# EAGLE library part XC3S50PQ208 (library xilinx_spartan3_virtex4_and_5)
Xilinx FPGA
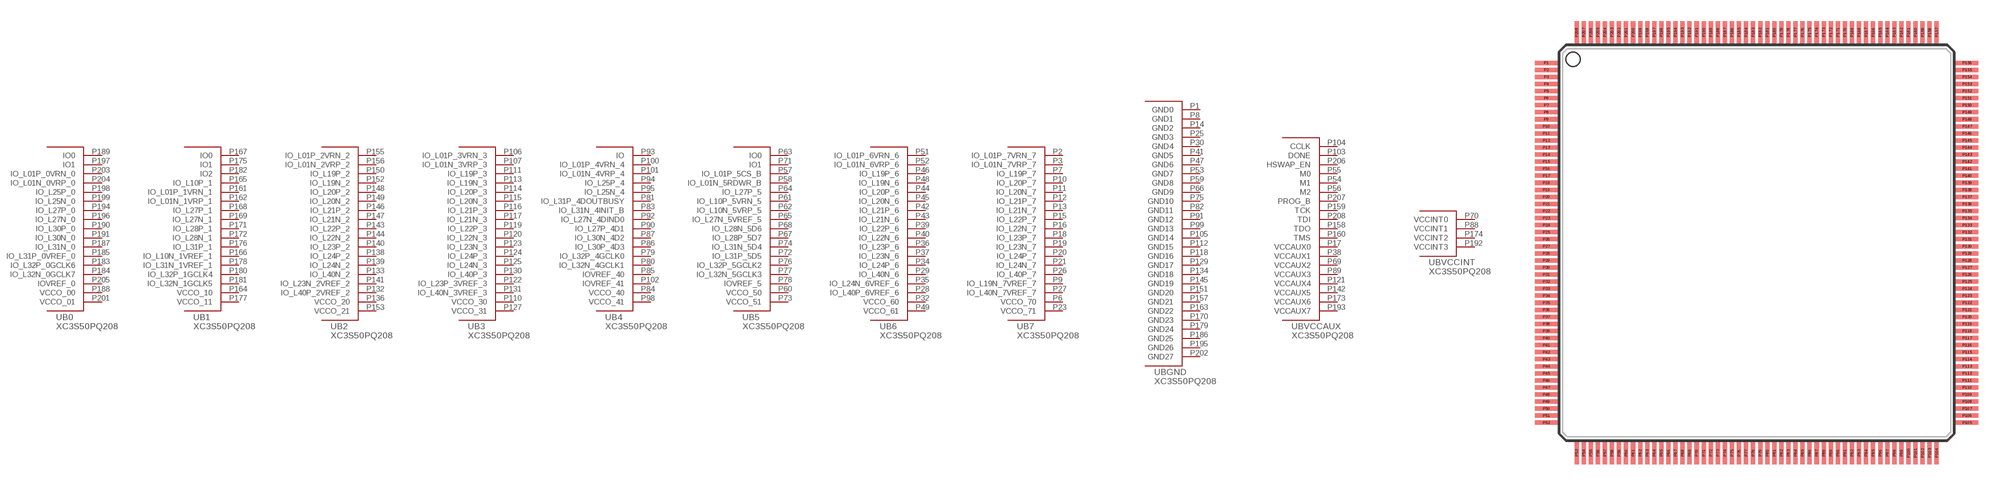
[diagram p6: symbol with the pads of PQ208; footprint PQ208]

Designator prefix U; gates B0=XC3S50PQ208_0 B1=XC3S50PQ208_1 B2=XC3S50PQ208_2 B3=XC3S50PQ208_3 B4=XC3S50PQ208_4 B5=XC3S50PQ208_5 B6=XC3S50PQ208_6 B7=XC3S50PQ208_7 BGND=XC3S50PQ208_GND BVCCAUX=XC3S50PQ208_VCCAUX BVCCINT=XC3S50PQ208_VCCINT

## XC3S50PQ208  [PQ208]
P1  BGND:GND0  pas
P2  B7:IO_L01P_7VRN_7
P3  B7:IO_L01N_7VRP_7
P6  B7:VCCO_70  pas
P7  B7:IO_L19P_7
P8  BGND:GND1  pas
P9  B7:IO_L19N_7VREF_7
P10  B7:IO_L20P_7
P11  B7:IO_L20N_7
P12  B7:IO_L21P_7
P13  B7:IO_L21N_7
P14  BGND:GND2  pas
P15  B7:IO_L22P_7
P16  B7:IO_L22N_7
P17  BVCCAUX:VCCAUX0  pas
P18  B7:IO_L23P_7
P19  B7:IO_L23N_7
P20  B7:IO_L24P_7
P21  B7:IO_L24N_7
P23  B7:VCCO_71  pas
P25  BGND:GND3  pas
P26  B7:IO_L40P_7
P27  B7:IO_L40N_7VREF_7
P28  B6:IO_L40P_6VREF_6
P29  B6:IO_L40N_6
P30  BGND:GND4  pas
P32  B6:VCCO_60  pas
P34  B6:IO_L24P_6
P35  B6:IO_L24N_6VREF_6
P36  B6:IO_L23P_6
P37  B6:IO_L23N_6
P38  BVCCAUX:VCCAUX1  pas
P39  B6:IO_L22P_6
P40  B6:IO_L22N_6
P41  BGND:GND5  pas
P42  B6:IO_L21P_6
P43  B6:IO_L21N_6
P44  B6:IO_L20P_6
P45  B6:IO_L20N_6
P46  B6:IO_L19P_6
P47  BGND:GND6  pas
P48  B6:IO_L19N_6
P49  B6:VCCO_61  pas
P51  B6:IO_L01P_6VRN_6
P52  B6:IO_L01N_6VRP_6
P53  BGND:GND7  pas
P54  BVCCAUX:M1
P55  BVCCAUX:M0
P56  BVCCAUX:M2
P57  B5:IO_L01P_5CS_B
P58  B5:IO_L01N_5RDWR_B
P59  BGND:GND8  pas
P60  B5:VCCO_50  pas
P61  B5:IO_L10P_5VRN_5
P62  B5:IO_L10N_5VRP_5
P63  B5:IO0
P64  B5:IO_L27P_5
P65  B5:IO_L27N_5VREF_5
P66  BGND:GND9  pas
P67  B5:IO_L28P_5D7
P68  B5:IO_L28N_5D6
P69  BVCCAUX:VCCAUX2  pas
P70  BVCCINT:VCCINT0  pas
P71  B5:IO1
P72  B5:IO_L31P_5D5
P73  B5:VCCO_51  pas
P74  B5:IO_L31N_5D4
P75  BGND:GND10  pas
P76  B5:IO_L32P_5GCLK2
P77  B5:IO_L32N_5GCLK3
P78  B5:IOVREF_5
P79  B4:IO_L32P_4GCLK0
P80  B4:IO_L32N_4GCLK1
P81  B4:IO_L31P_4DOUTBUSY
P82  BGND:GND11  pas
P83  B4:IO_L31N_4INIT_B
P84  B4:VCCO_40  pas
P85  B4:IOVREF_40
P86  B4:IO_L30P_4D3
P87  B4:IO_L30N_4D2
P88  BVCCINT:VCCINT1  pas
P89  BVCCAUX:VCCAUX3  pas
P90  B4:IO_L27P_4D1
P91  BGND:GND12  pas
P92  B4:IO_L27N_4DIND0
P93  B4:IO
P94  B4:IO_L25P_4
P95  B4:IO_L25N_4
P98  B4:VCCO_41  pas
P99  BGND:GND13  pas
P100  B4:IO_L01P_4VRN_4
P101  B4:IO_L01N_4VRP_4
P102  B4:IOVREF_41
P103  BVCCAUX:DONE
P104  BVCCAUX:CCLK
P105  BGND:GND14  pas
P106  B3:IO_L01P_3VRN_3
P107  B3:IO_L01N_3VRP_3
P110  B3:VCCO_30  pas
P111  B3:IO_L19P_3
P112  BGND:GND15  pas
P113  B3:IO_L19N_3
P114  B3:IO_L20P_3
P115  B3:IO_L20N_3
P116  B3:IO_L21P_3
P117  B3:IO_L21N_3
P118  BGND:GND16  pas
P119  B3:IO_L22P_3
P120  B3:IO_L22N_3
P121  BVCCAUX:VCCAUX4  pas
P122  B3:IO_L23P_3VREF_3
P123  B3:IO_L23N_3
P124  B3:IO_L24P_3
P125  B3:IO_L24N_3
P127  B3:VCCO_31  pas
P129  BGND:GND17  pas
P130  B3:IO_L40P_3
P131  B3:IO_L40N_3VREF_3
P132  B2:IO_L40P_2VREF_2
P133  B2:IO_L40N_2
P134  BGND:GND18  pas
P136  B2:VCCO_20  pas
P138  B2:IO_L24P_2
P139  B2:IO_L24N_2
P140  B2:IO_L23P_2
P141  B2:IO_L23N_2VREF_2
P142  BVCCAUX:VCCAUX5  pas
P143  B2:IO_L22P_2
P144  B2:IO_L22N_2
P145  BGND:GND19  pas
P146  B2:IO_L21P_2
P147  B2:IO_L21N_2
P148  B2:IO_L20P_2
P149  B2:IO_L20N_2
P150  B2:IO_L19P_2
P151  BGND:GND20  pas
P152  B2:IO_L19N_2
P153  B2:VCCO_21  pas
P155  B2:IO_L01P_2VRN_2
P156  B2:IO_L01N_2VRP_2
P157  BGND:GND21  pas
P158  BVCCAUX:TDO
P159  BVCCAUX:TCK
P160  BVCCAUX:TMS
P161  B1:IO_L01P_1VRN_1
P162  B1:IO_L01N_1VRP_1
P163  BGND:GND22  pas
P164  B1:VCCO_10  pas
P165  B1:IO_L10P_1
P166  B1:IO_L10N_1VREF_1
P167  B1:IO0
P168  B1:IO_L27P_1
P169  B1:IO_L27N_1
P170  BGND:GND23  pas
P171  B1:IO_L28P_1
P172  B1:IO_L28N_1
P173  BVCCAUX:VCCAUX6  pas
P174  BVCCINT:VCCINT2  pas
P175  B1:IO1
P176  B1:IO_L31P_1
P177  B1:VCCO_11  pas
P178  B1:IO_L31N_1VREF_1
P179  BGND:GND24  pas
P180  B1:IO_L32P_1GCLK4
P181  B1:IO_L32N_1GCLK5
P182  B1:IO2
P183  B0:IO_L32P_0GCLK6
P184  B0:IO_L32N_0GCLK7
P185  B0:IO_L31P_0VREF_0
P186  BGND:GND25  pas
P187  B0:IO_L31N_0
P188  B0:VCCO_00  pas
P189  B0:IO0
P190  B0:IO_L30P_0
P191  B0:IO_L30N_0
P192  BVCCINT:VCCINT3  pas
P193  BVCCAUX:VCCAUX7  pas
P194  B0:IO_L27P_0
P195  BGND:GND26  pas
P196  B0:IO_L27N_0
P197  B0:IO1
P198  B0:IO_L25P_0
P199  B0:IO_L25N_0
P201  B0:VCCO_01  pas
P202  BGND:GND27  pas
P203  B0:IO_L01P_0VRN_0
P204  B0:IO_L01N_0VRP_0
P205  B0:IOVREF_0
P206  BVCCAUX:HSWAP_EN
P207  BVCCAUX:PROG_B
P208  BVCCAUX:TDI

## Footprint PQ208 (pad centres in mm)
smd 1.6 x 0.3: P1 -14.9,12.75; P2 -14.9,12.25; P3 -14.9,11.75; P4 -14.9,11.25; P5 -14.9,10.75; P6 -14.9,10.25; P7 -14.9,9.75; P8 -14.9,9.25; P9 -14.9,8.75; P10 -14.9,8.25; P11 -14.9,7.75; P12 -14.9,7.25; P13 -14.9,6.75; P14 -14.9,6.25; P15 -14.9,5.75; P16 -14.9,5.25; P17 -14.9,4.75; P18 -14.9,4.25; P19 -14.9,3.75; P20 -14.9,3.25; P21 -14.9,2.75; P22 -14.9,2.25; P23 -14.9,1.75; P24 -14.9,1.25; P25 -14.9,0.75; P26 -14.9,0.25; P27 -14.9,-0.25; P28 -14.9,-0.75; P29 -14.9,-1.25; P30 -14.9,-1.75; P31 -14.9,-2.25; P32 -14.9,-2.75; P33 -14.9,-3.25; P34 -14.9,-3.75; P35 -14.9,-4.25; P36 -14.9,-4.75; P37 -14.9,-5.25; P38 -14.9,-5.75; P39 -14.9,-6.25; P40 -14.9,-6.75; P41 -14.9,-7.25; P42 -14.9,-7.75; P43 -14.9,-8.25; P44 -14.9,-8.75; P45 -14.9,-9.25; P46 -14.9,-9.75; P47 -14.9,-10.25; P48 -14.9,-10.75; P49 -14.9,-11.25; P50 -14.9,-11.75; P51 -14.9,-12.25; P52 -14.9,-12.75; P105 14.9,-12.75; P106 14.9,-12.25; P107 14.9,-11.75; P108 14.9,-11.25; P109 14.9,-10.75; P110 14.9,-10.25; P111 14.9,-9.75; P112 14.9,-9.25; P113 14.9,-8.75; P114 14.9,-8.25; P115 14.9,-7.75; P116 14.9,-7.25; P117 14.9,-6.75; P118 14.9,-6.25; P119 14.9,-5.75; P120 14.9,-5.25; P121 14.9,-4.75; P122 14.9,-4.25; P123 14.9,-3.75; P124 14.9,-3.25; P125 14.9,-2.75; P126 14.9,-2.25; P127 14.9,-1.75; P128 14.9,-1.25; P129 14.9,-0.75; P130 14.9,-0.25; P131 14.9,0.25; P132 14.9,0.75; P133 14.9,1.25; P134 14.9,1.75; P135 14.9,2.25; P136 14.9,2.75; P137 14.9,3.25; P138 14.9,3.75; P139 14.9,4.25; P140 14.9,4.75; P141 14.9,5.25; P142 14.9,5.75; P143 14.9,6.25; P144 14.9,6.75; P145 14.9,7.25; P146 14.9,7.75; P147 14.9,8.25; P148 14.9,8.75; P149 14.9,9.25; P150 14.9,9.75; P151 14.9,10.25; P152 14.9,10.75; P153 14.9,11.25; P154 14.9,11.75; P155 14.9,12.25; P156 14.9,12.75
smd 0.3 x 1.6: P53 -12.75,-14.9; P54 -12.25,-14.9; P55 -11.75,-14.9; P56 -11.25,-14.9; P57 -10.75,-14.9; P58 -10.25,-14.9; P59 -9.75,-14.9; P60 -9.25,-14.9; P61 -8.75,-14.9; P62 -8.25,-14.9; P63 -7.75,-14.9; P64 -7.25,-14.9; P65 -6.75,-14.9; P66 -6.25,-14.9; P67 -5.75,-14.9; P68 -5.25,-14.9; P69 -4.75,-14.9; P70 -4.25,-14.9; P71 -3.75,-14.9; P72 -3.25,-14.9; P73 -2.75,-14.9; P74 -2.25,-14.9; P75 -1.75,-14.9; P76 -1.25,-14.9; P77 -0.75,-14.9; P78 -0.25,-14.9; P79 0.25,-14.9; P80 0.75,-14.9; P81 1.25,-14.9; P82 1.75,-14.9; P83 2.25,-14.9; P84 2.75,-14.9; P85 3.25,-14.9; P86 3.75,-14.9; P87 4.25,-14.9; P88 4.75,-14.9; P89 5.25,-14.9; P90 5.75,-14.9; P91 6.25,-14.9; P92 6.75,-14.9; P93 7.25,-14.9; P94 7.75,-14.9; P95 8.25,-14.9; P96 8.75,-14.9; P97 9.25,-14.9; P98 9.75,-14.9; P99 10.25,-14.9; P100 10.75,-14.9; P101 11.25,-14.9; P102 11.75,-14.9; P103 12.25,-14.9; P104 12.75,-14.9; P157 12.75,14.9; P158 12.25,14.9; P159 11.75,14.9; P160 11.25,14.9; P161 10.75,14.9; P162 10.25,14.9; P163 9.75,14.9; P164 9.25,14.9; P165 8.75,14.9; P166 8.25,14.9; P167 7.75,14.9; P168 7.25,14.9; P169 6.75,14.9; P170 6.25,14.9; P171 5.75,14.9; P172 5.25,14.9; P173 4.75,14.9; P174 4.25,14.9; P175 3.75,14.9; P176 3.25,14.9; P177 2.75,14.9; P178 2.25,14.9; P179 1.75,14.9; P180 1.25,14.9; P181 0.75,14.9; P182 0.25,14.9; P183 -0.25,14.9; P184 -0.75,14.9; P185 -1.25,14.9; P186 -1.75,14.9; P187 -2.25,14.9; P188 -2.75,14.9; P189 -3.25,14.9; P190 -3.75,14.9; P191 -4.25,14.9; P192 -4.75,14.9; P193 -5.25,14.9; P194 -5.75,14.9; P195 -6.25,14.9; P196 -6.75,14.9; P197 -7.25,14.9; P198 -7.75,14.9; P199 -8.25,14.9; P200 -8.75,14.9; P201 -9.25,14.9; P202 -9.75,14.9; P203 -10.25,14.9; P204 -10.75,14.9; P205 -11.25,14.9; P206 -11.75,14.9; P207 -12.25,14.9; P208 -12.75,14.9